# EAGLE library part DAC8562 (library Cerebro-library)
DAC8562
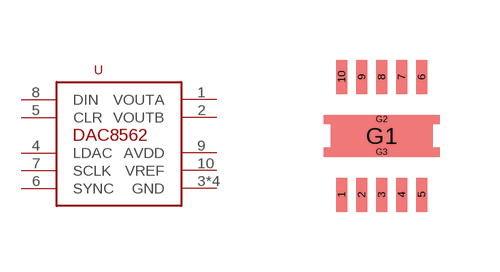
[diagram p8: symbol with the pads of WSON-10; footprint WSON-10]

Designator prefix -

## DAC8562  [WSON-10]
1  VOUTA  out
2  VOUTB  out
3  GND  in
4  LDAC  in
5  CLR  in
6  SYNC  in
7  SCLK  in
8  DIN  in
9  AVDD  in
10  VREF
G1  GND  in
G2  GND  in
G3  GND  in

## Footprint WSON-10 (pad centres in mm)
smd 0.28 x 0.85: 1 -1,-1.475; 2 -0.5,-1.475; 3 0,-1.475; 4 0.5,-1.475; 5 1,-1.475; 6 1,1.475; 7 0.5,1.475; 8 0,1.475; 9 -0.5,1.475; 10 -1,1.475
smd 2.55 x 0.59: G1 0,0
smd 2.91 x 0.23: G2 0,0.41; G3 0,-0.41